# EAGLE library part 74XX123 (library pixhawk2)
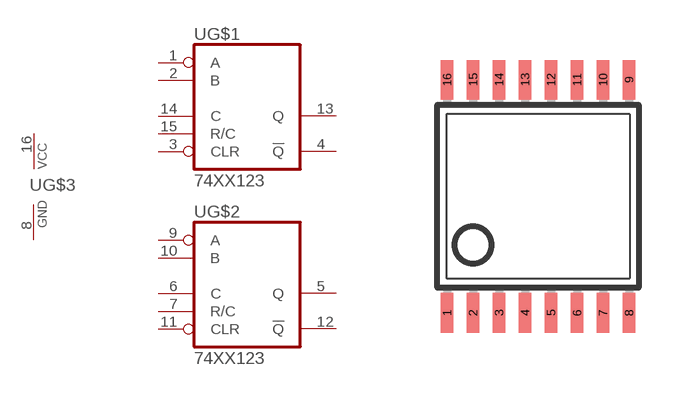
[diagram p71: symbol with the pads of TSSOP-16; footprint TSSOP-16]

Designator prefix -; gates G$1=74XX123 G$2=74XX123 G$3=PWRGND

## 74XX123TSSOP  [TSSOP-16]
1  G$1:A  in
2  G$1:B  in
3  G$1:CLR  in
4  G$1:!Q  out
5  G$2:Q  out
6  G$2:C  in
7  G$2:R/C  in
8  G$3:GND  pwr
9  G$2:A  in
10  G$2:B  in
11  G$2:CLR  in
12  G$2:!Q  out
13  G$1:Q  out
14  G$1:C  in
15  G$1:R/C  in
16  G$3:VCC  pwr

## Footprint TSSOP-16 (pad centres in mm)
Thin Shrink Small Outline Plastic 16 MAX3223-MAX3243.pdf
smd 0.305 x 0.991: 1 -2.275,-2.918; 2 -1.625,-2.918; 3 -0.975,-2.918; 4 -0.325,-2.918; 5 0.325,-2.918; 6 0.975,-2.918; 7 1.625,-2.918; 8 2.275,-2.918; 9 2.275,2.918; 10 1.625,2.918; 11 0.975,2.918; 12 0.325,2.918; 13 -0.325,2.918; 14 -0.975,2.918; 15 -1.625,2.918; 16 -2.275,2.918